# Altium schematic symbol library SCH - MCU - STM32 - ST MICROELECTRONICS STM32G484VEHX TFBGA100.SchLib: 1 symbol
Pins are listed as number, name and electrical type; pins without a type are passive.

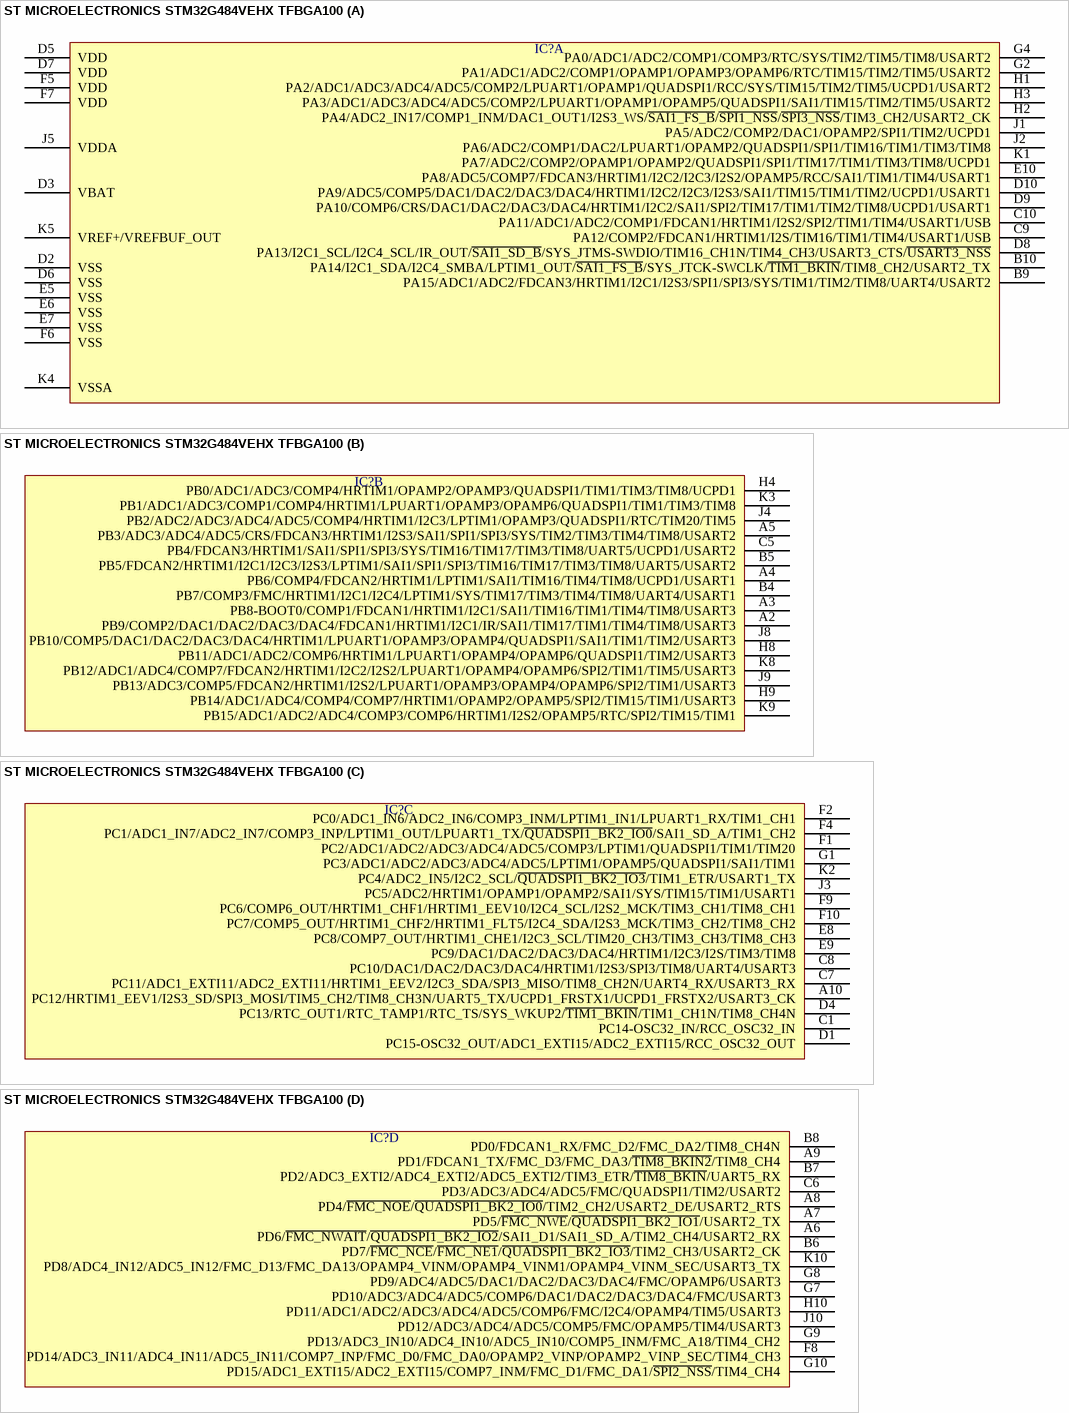
[diagram p0: symbol ST MICROELECTRONICS STM32G484VEHX TFBGA100]

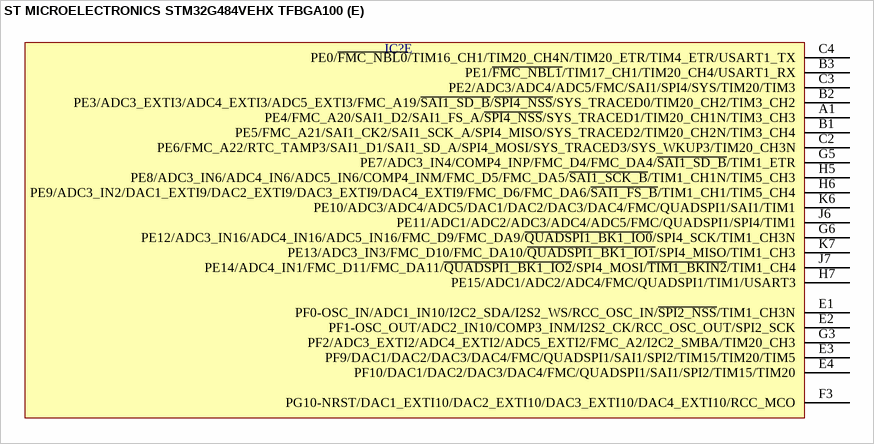
[diagram p1: symbol ST MICROELECTRONICS STM32G484VEHX TFBGA100]

## ST MICROELECTRONICS STM32G484VEHX TFBGA100
designator IC?  (value not drawn)
part A pins: B9 PA15/ADC1/ADC2/FDCAN3/HRTIM1/I2C1/I2S3/SPI1/SPI3/SYS/TIM1/TIM2/TIM8/UART4/USART2, B10 PA14/I2C1_SDA/I2C4_SMBA/LPTIM1_OUT/~{SAI1_FS_B}/SYS_JTCK-SWCLK/~{TIM1_BKIN}/TIM8_CH2/USART2_TX, C9 PA12/COMP2/FDCAN1/HRTIM1/I2S/TIM16/TIM1/TIM4/USART1/USB, C10 PA11/ADC1/ADC2/COMP1/FDCAN1/HRTIM1/I2S2/SPI2/TIM1/TIM4/USART1/USB, D2 VSS, D3 VBAT, D5 VDD, D6 VSS, D7 VDD, D8 PA13/I2C1_SCL/I2C4_SCL/IR_OUT/~{SAI1_SD_B}/SYS_JTMS-SWDIO/TIM16_CH1N/TIM4_CH3/USART3_CTS/~{USART3_NSS}, D9 PA10/COMP6/CRS/DAC1/DAC2/DAC3/DAC4/HRTIM1/I2C2/SAI1/SPI2/TIM17/TIM1/TIM2/TIM8/UCPD1/USART1, D10 PA9/ADC5/COMP5/DAC1/DAC2/DAC3/DAC4/HRTIM1/I2C2/I2C3/I2S3/SAI1/TIM15/TIM1/TIM2/UCPD1/USART1, E5 VSS, E6 VSS, E7 VSS, E10 PA8/ADC5/COMP7/FDCAN3/HRTIM1/I2C2/I2C3/I2S2/OPAMP5/RCC/SAI1/TIM1/TIM4/USART1, F5 VDD, F6 VSS, F7 VDD, G2 PA1/ADC1/ADC2/COMP1/OPAMP1/OPAMP3/OPAMP6/RTC/TIM15/TIM2/TIM5/USART2, G4 PA0/ADC1/ADC2/COMP1/COMP3/RTC/SYS/TIM2/TIM5/TIM8/USART2, H1 PA2/ADC1/ADC3/ADC4/ADC5/COMP2/LPUART1/OPAMP1/QUADSPI1/RCC/SYS/TIM15/TIM2/TIM5/UCPD1/USART2, H2 PA4/ADC2_IN17/COMP1_INM/DAC1_OUT1/I2S3_WS/~{SAI1_FS_B}/~{SPI1_NSS}/~{SPI3_NSS}/TIM3_CH2/USART2_CK, H3 PA3/ADC1/ADC3/ADC4/ADC5/COMP2/LPUART1/OPAMP1/OPAMP5/QUADSPI1/SAI1/TIM15/TIM2/TIM5/USART2, J1 PA5/ADC2/COMP2/DAC1/OPAMP2/SPI1/TIM2/UCPD1, J2 PA6/ADC2/COMP1/DAC2/LPUART1/OPAMP2/QUADSPI1/SPI1/TIM16/TIM1/TIM3/TIM8, J5 VDDA, K1 PA7/ADC2/COMP2/OPAMP1/OPAMP2/QUADSPI1/SPI1/TIM17/TIM1/TIM3/TIM8/UCPD1, K4 VSSA, K5 VREF+/VREFBUF_OUT
part B pins: A2 PB9/COMP2/DAC1/DAC2/DAC3/DAC4/FDCAN1/HRTIM1/I2C1/IR/SAI1/TIM17/TIM1/TIM4/TIM8/USART3, A3 PB8-BOOT0/COMP1/FDCAN1/HRTIM1/I2C1/SAI1/TIM16/TIM1/TIM4/TIM8/USART3, A4 PB6/COMP4/FDCAN2/HRTIM1/LPTIM1/SAI1/TIM16/TIM4/TIM8/UCPD1/USART1, A5 PB3/ADC3/ADC4/ADC5/CRS/FDCAN3/HRTIM1/I2S3/SAI1/SPI1/SPI3/SYS/TIM2/TIM3/TIM4/TIM8/USART2, B4 PB7/COMP3/FMC/HRTIM1/I2C1/I2C4/LPTIM1/SYS/TIM17/TIM3/TIM4/TIM8/UART4/USART1, B5 PB5/FDCAN2/HRTIM1/I2C1/I2C3/I2S3/LPTIM1/SAI1/SPI1/SPI3/TIM16/TIM17/TIM3/TIM8/UART5/USART2, C5 PB4/FDCAN3/HRTIM1/SAI1/SPI1/SPI3/SYS/TIM16/TIM17/TIM3/TIM8/UART5/UCPD1/USART2, H4 PB0/ADC1/ADC3/COMP4/HRTIM1/OPAMP2/OPAMP3/QUADSPI1/TIM1/TIM3/TIM8/UCPD1, H8 PB11/ADC1/ADC2/COMP6/HRTIM1/LPUART1/OPAMP4/OPAMP6/QUADSPI1/TIM2/USART3, H9 PB14/ADC1/ADC4/COMP4/COMP7/HRTIM1/OPAMP2/OPAMP5/SPI2/TIM15/TIM1/USART3, J4 PB2/ADC2/ADC3/ADC4/ADC5/COMP4/HRTIM1/I2C3/LPTIM1/OPAMP3/QUADSPI1/RTC/TIM20/TIM5, J8 PB10/COMP5/DAC1/DAC2/DAC3/DAC4/HRTIM1/LPUART1/OPAMP3/OPAMP4/QUADSPI1/SAI1/TIM1/TIM2/USART3, J9 PB13/ADC3/COMP5/FDCAN2/HRTIM1/I2S2/LPUART1/OPAMP3/OPAMP4/OPAMP6/SPI2/TIM1/USART3, K3 PB1/ADC1/ADC3/COMP1/COMP4/HRTIM1/LPUART1/OPAMP3/OPAMP6/QUADSPI1/TIM1/TIM3/TIM8, K8 PB12/ADC1/ADC4/COMP7/FDCAN2/HRTIM1/I2C2/I2S2/LPUART1/OPAMP4/OPAMP6/SPI2/TIM1/TIM5/USART3, K9 PB15/ADC1/ADC2/ADC4/COMP3/COMP6/HRTIM1/I2S2/OPAMP5/RTC/SPI2/TIM15/TIM1
part C pins: A10 PC12/HRTIM1_EEV1/I2S3_SD/SPI3_MOSI/TIM5_CH2/TIM8_CH3N/UART5_TX/UCPD1_FRSTX1/UCPD1_FRSTX2/USART3_CK, C1 PC14-OSC32_IN/RCC_OSC32_IN, C7 PC11/ADC1_EXTI11/ADC2_EXTI11/HRTIM1_EEV2/I2C3_SDA/SPI3_MISO/TIM8_CH2N/UART4_RX/USART3_RX, C8 PC10/DAC1/DAC2/DAC3/DAC4/HRTIM1/I2S3/SPI3/TIM8/UART4/USART3, D1 PC15-OSC32_OUT/ADC1_EXTI15/ADC2_EXTI15/RCC_OSC32_OUT, D4 PC13/RTC_OUT1/RTC_TAMP1/RTC_TS/SYS_WKUP2/~{TIM1_BKIN}/TIM1_CH1N/TIM8_CH4N, E8 PC8/COMP7_OUT/HRTIM1_CHE1/I2C3_SCL/TIM20_CH3/TIM3_CH3/TIM8_CH3, E9 PC9/DAC1/DAC2/DAC3/DAC4/HRTIM1/I2C3/I2S/TIM3/TIM8, F1 PC2/ADC1/ADC2/ADC3/ADC4/ADC5/COMP3/LPTIM1/QUADSPI1/TIM1/TIM20, F2 PC0/ADC1_IN6/ADC2_IN6/COMP3_INM/LPTIM1_IN1/LPUART1_RX/TIM1_CH1, F4 PC1/ADC1_IN7/ADC2_IN7/COMP3_INP/LPTIM1_OUT/LPUART1_TX/~{QUADSPI1_BK2_IO0}/SAI1_SD_A/TIM1_CH2, F9 PC6/COMP6_OUT/HRTIM1_CHF1/HRTIM1_EEV10/I2C4_SCL/I2S2_MCK/TIM3_CH1/TIM8_CH1, F10 PC7/COMP5_OUT/HRTIM1_CHF2/HRTIM1_FLT5/I2C4_SDA/I2S3_MCK/TIM3_CH2/TIM8_CH2, G1 PC3/ADC1/ADC2/ADC3/ADC4/ADC5/LPTIM1/OPAMP5/QUADSPI1/SAI1/TIM1, J3 PC5/ADC2/HRTIM1/OPAMP1/OPAMP2/SAI1/SYS/TIM15/TIM1/USART1, K2 PC4/ADC2_IN5/I2C2_SCL/~{QUADSPI1_BK2_IO3}/TIM1_ETR/USART1_TX
part D pins: A6 PD6/~{FMC_NWAIT}/~{QUADSPI1_BK2_IO2}/SAI1_D1/SAI1_SD_A/TIM2_CH4/USART2_RX, A7 PD5/~{FMC_NWE}/~{QUADSPI1_BK2_IO1}/USART2_TX, A8 PD4/~{FMC_NOE}/~{QUADSPI1_BK2_IO0}/TIM2_CH2/USART2_DE/USART2_RTS, A9 PD1/FDCAN1_TX/FMC_D3/FMC_DA3/~{TIM8_BKIN2}/TIM8_CH4, B6 PD7/~{FMC_NCE}/~{FMC_NE1}/~{QUADSPI1_BK2_IO3}/TIM2_CH3/USART2_CK, B7 PD2/ADC3_EXTI2/ADC4_EXTI2/ADC5_EXTI2/TIM3_ETR/~{TIM8_BKIN}/UART5_RX, B8 PD0/FDCAN1_RX/FMC_D2/FMC_DA2/TIM8_CH4N, C6 PD3/ADC3/ADC4/ADC5/FMC/QUADSPI1/TIM2/USART2, F8 PD14/ADC3_IN11/ADC4_IN11/ADC5_IN11/COMP7_INP/FMC_D0/FMC_DA0/OPAMP2_VINP/OPAMP2_VINP_SEC/TIM4_CH3, G7 PD10/ADC3/ADC4/ADC5/COMP6/DAC1/DAC2/DAC3/DAC4/FMC/USART3, G8 PD9/ADC4/ADC5/DAC1/DAC2/DAC3/DAC4/FMC/OPAMP6/USART3, G9 PD13/ADC3_IN10/ADC4_IN10/ADC5_IN10/COMP5_INM/FMC_A18/TIM4_CH2, G10 PD15/ADC1_EXTI15/ADC2_EXTI15/COMP7_INM/FMC_D1/FMC_DA1/~{SPI2_NSS}/TIM4_CH4, H10 PD11/ADC1/ADC2/ADC3/ADC4/ADC5/COMP6/FMC/I2C4/OPAMP4/TIM5/USART3, J10 PD12/ADC3/ADC4/ADC5/COMP5/FMC/OPAMP5/TIM4/USART3, K10 PD8/ADC4_IN12/ADC5_IN12/FMC_D13/FMC_DA13/OPAMP4_VINM/OPAMP4_VINM1/OPAMP4_VINM_SEC/USART3_TX
part E pins: A1 PE4/FMC_A20/SAI1_D2/SAI1_FS_A/~{SPI4_NSS}/SYS_TRACED1/TIM20_CH1N/TIM3_CH3, B1 PE5/FMC_A21/SAI1_CK2/SAI1_SCK_A/SPI4_MISO/SYS_TRACED2/TIM20_CH2N/TIM3_CH4, B2 PE3/ADC3_EXTI3/ADC4_EXTI3/ADC5_EXTI3/FMC_A19/~{SAI1_SD_B}/~{SPI4_NSS}/SYS_TRACED0/TIM20_CH2/TIM3_CH2, B3 PE1/~{FMC_NBL1}/TIM17_CH1/TIM20_CH4/USART1_RX, C2 PE6/FMC_A22/RTC_TAMP3/SAI1_D1/SAI1_SD_A/SPI4_MOSI/SYS_TRACED3/SYS_WKUP3/TIM20_CH3N, C3 PE2/ADC3/ADC4/ADC5/FMC/SAI1/SPI4/SYS/TIM20/TIM3, C4 PE0/~{FMC_NBL0}/TIM16_CH1/TIM20_CH4N/TIM20_ETR/TIM4_ETR/USART1_TX, E1 PF0-OSC_IN/ADC1_IN10/I2C2_SDA/I2S2_WS/RCC_OSC_IN/~{SPI2_NSS}/TIM1_CH3N, E2 PF1-OSC_OUT/ADC2_IN10/COMP3_INM/I2S2_CK/RCC_OSC_OUT/SPI2_SCK, E3 PF9/DAC1/DAC2/DAC3/DAC4/FMC/QUADSPI1/SAI1/SPI2/TIM15/TIM20/TIM5, E4 PF10/DAC1/DAC2/DAC3/DAC4/FMC/QUADSPI1/SAI1/SPI2/TIM15/TIM20, F3 PG10-NRST/DAC1_EXTI10/DAC2_EXTI10/DAC3_EXTI10/DAC4_EXTI10/RCC_MCO, G3 PF2/ADC3_EXTI2/ADC4_EXTI2/ADC5_EXTI2/FMC_A2/I2C2_SMBA/TIM20_CH3, G5 PE7/ADC3_IN4/COMP4_INP/FMC_D4/FMC_DA4/~{SAI1_SD_B}/TIM1_ETR, G6 PE12/ADC3_IN16/ADC4_IN16/ADC5_IN16/FMC_D9/FMC_DA9/~{QUADSPI1_BK1_IO0}/SPI4_SCK/TIM1_CH3N, H5 PE8/ADC3_IN6/ADC4_IN6/ADC5_IN6/COMP4_INM/FMC_D5/FMC_DA5/~{SAI1_SCK_B}/TIM1_CH1N/TIM5_CH3, H6 PE9/ADC3_IN2/DAC1_EXTI9/DAC2_EXTI9/DAC3_EXTI9/DAC4_EXTI9/FMC_D6/FMC_DA6/~{SAI1_FS_B}/TIM1_CH1/TIM5_CH4, H7 PE15/ADC1/ADC2/ADC4/FMC/QUADSPI1/TIM1/USART3, J6 PE11/ADC1/ADC2/ADC3/ADC4/ADC5/FMC/QUADSPI1/SPI4/TIM1, J7 PE14/ADC4_IN1/FMC_D11/FMC_DA11/~{QUADSPI1_BK1_IO2}/SPI4_MOSI/~{TIM1_BKIN2}/TIM1_CH4, K6 PE10/ADC3/ADC4/ADC5/DAC1/DAC2/DAC3/DAC4/FMC/QUADSPI1/SAI1/TIM1, K7 PE13/ADC3_IN3/FMC_D10/FMC_DA10/~{QUADSPI1_BK1_IO1}/SPI4_MISO/TIM1_CH3